# Altium footprint library Vlakec.PcbLib: 4 footprints
Each footprint in its own frame and in the unit in brackets; x right, y up, seen from the top. Pads: shape width x height; smd on the part's side, far side on the other; paste and mask are expansions set on the pad; w line width, h text height; cw(c..) or ccw(c..) is an arc to the next point about the centre after c.
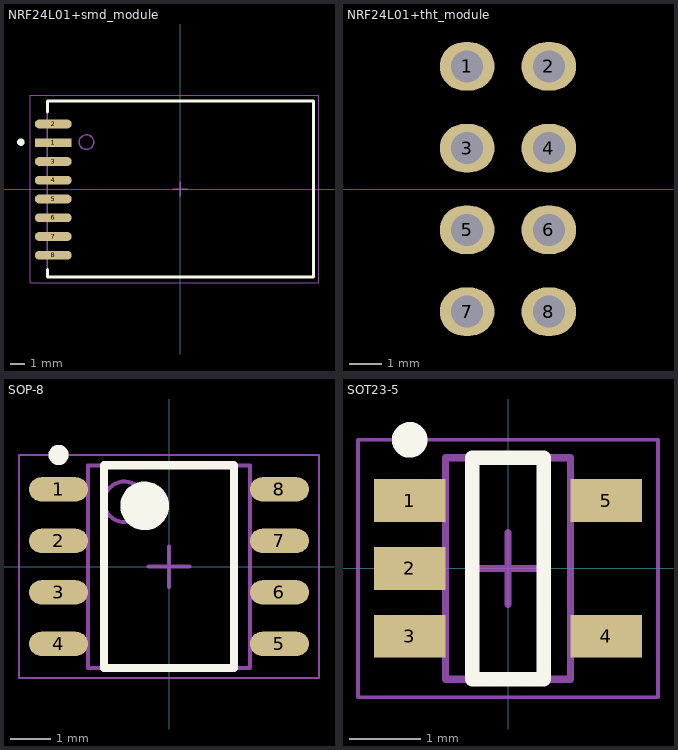
[diagram p0: the footprints below, top view; thin cyan lines are the x and y axes]

## NRF24L01+smd_module [mm]
height 1.75
pads (8):
  rect 2.5x0.6 smd: 1(-8.6,3.131)
  oval 2.5x0.6 smd: 2(-8.6,4.401) 3(-8.6,1.861) 4(-8.6,0.591) 5(-8.6,-0.679) 6(-8.6,-1.949) 7(-8.6,-3.219) 8(-8.6,-4.489)
Top Overlay:
  circle w0.25: c-10.795,3.175 r0.125
  lines w0.2: -9,-5.461 -9,-5.969 9.017,-5.969 9.017,5.969 -9,5.969 -9,5.207
Mechanical 13:
  circle w0.1: c-6.35,3.175 r0.5
  lines w0.1: -9.017,-5.969 9.017,-5.969 9.017,5.969 -9.017,5.969 -9.017,-5.969
Mechanical 15:
  lines w0.05: -10.16,-6.35 9.398,-6.35 9.398,6.35 -10.16,6.35 -10.16,-6.35
  lines w0.1: -0.5,0 0.5,0 ; 0,-0.5 0,0.5
3D body "nrf24l01+smd.step": height 0.8, standoff 0, extent -9,-6 9,6

## NRF24L01+tht_module [mm]
pads (8):
  oval 1.7x1.5 hole 1: 1(-10.16,3.81) 2(-7.62,3.81) 3(-10.16,1.27) 4(-7.62,1.27) 5(-10.16,-1.27) 6(-7.62,-1.27) 7(-10.16,-3.81) 8(-7.62,-3.81)
3D body "NRF24L01-tht.STEP": height 6.21, standoff -6.24, extent -11.753,-9.615 17.247,5.385

## SOP-8 [mm] "SOIC, 8-Leads, Body 4.90x3.90mm, Pitch 1.27mm, IPC Medium Density"
height 1.75
pads (8):
  oval 1.45x0.6 smd: 1(-2.725,1.905) 2(-2.725,0.635) 3(-2.725,-0.635) 4(-2.725,-1.905) 5(2.725,-1.905) 6(2.725,-0.635) 7(2.725,0.635) 8(2.725,1.905)
Top Overlay:
  circle w0.25: c-2.725,2.755 r0.125
  circle w0.6: c-0.6,1.5 r0.3
  lines w0.2: -1.6,-2.5 -1.6,2.5 1.6,2.5 1.6,-2.5 -1.6,-2.5
Mechanical 13:
  circle w0.1: c-1.1,1.6 r0.5
  lines w0.1: -2,-2.5 -2,2.5 2,2.5 2,-2.5 -2,-2.5
Mechanical 15:
  lines w0.05: -3.7,-2.75 -3.7,2.75 3.7,2.75 3.7,-2.75 -3.7,-2.75
  lines w0.1: -0.5,0 0.5,0 ; 0,-0.5 0,0.5
3D body "SOP-8.step": height 1.75, standoff 0, extent -3,-2.5 3,2.5

## SOT23-5 [mm] "SOT23, 5-Leads, Body 2.98x2.75mm, Pitch 0.95mm, IPC Medium Density"
height 1.4
pads (5):
  rect 1x0.6 smd: 1(-1.375,0.95) 2(-1.375,0) 3(-1.375,-0.95) 4(1.375,-0.95) 5(1.375,0.95)
Top Overlay:
  circle w0.25: c-1.375,1.8 r0.125
  lines w0.2: -0.5,-1.55 0.5,-1.55 0.5,1.55 -0.5,1.55 -0.5,-1.55
Mechanical 13:
  lines w0.1: -0.875,-1.55 -0.875,1.55 0.875,1.55 0.875,-1.55 -0.875,-1.55
Mechanical 15:
  lines w0.05: -2.1,-1.8 -2.1,1.8 2.1,1.8 2.1,-1.8 -2.1,-1.8
  lines w0.1: -0.5,0 0.5,0 ; 0,-0.5 0,0.5
3D body "SOT23-5.step": height 1.4, standoff 0, extent -1.5,-1.55 1.5,1.55